# EAGLE library part 74HC4051 (library yapo)
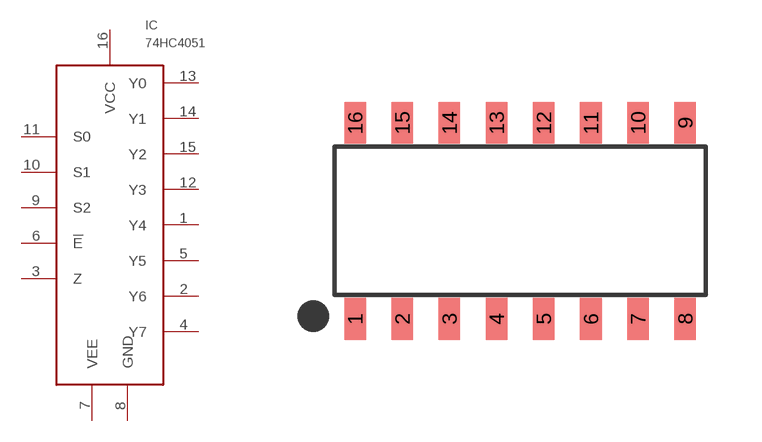
[diagram p9: symbol with the pads of SOIC-16; footprint SOIC-16]

Designator prefix IC

## 74HC4051  [SOIC-16]
1  Y4
2  Y6
3  Z
4  Y7
5  Y5
6  !E!
7  VEE
8  GND
9  S2
10  S1
11  S0
12  Y3
13  Y0
14  Y1
15  Y2
16  VCC

## Footprint SOIC-16 (pad centres in mm)
smd 0.58 x 1.12: 1 -4.445,-2.64; 2 -3.175,-2.64; 3 -1.905,-2.64; 4 -0.635,-2.64; 5 0.635,-2.64; 6 1.905,-2.64; 7 3.175,-2.64; 8 4.445,-2.64; 9 4.445,2.64; 10 3.175,2.64; 11 1.905,2.64; 12 0.635,2.64; 13 -0.635,2.64; 14 -1.905,2.64; 15 -3.175,2.64; 16 -4.445,2.64